# Altium integrated library TI_Logic_Specialty_Logic.IntLib: 2504 symbols (part 41 of 81)
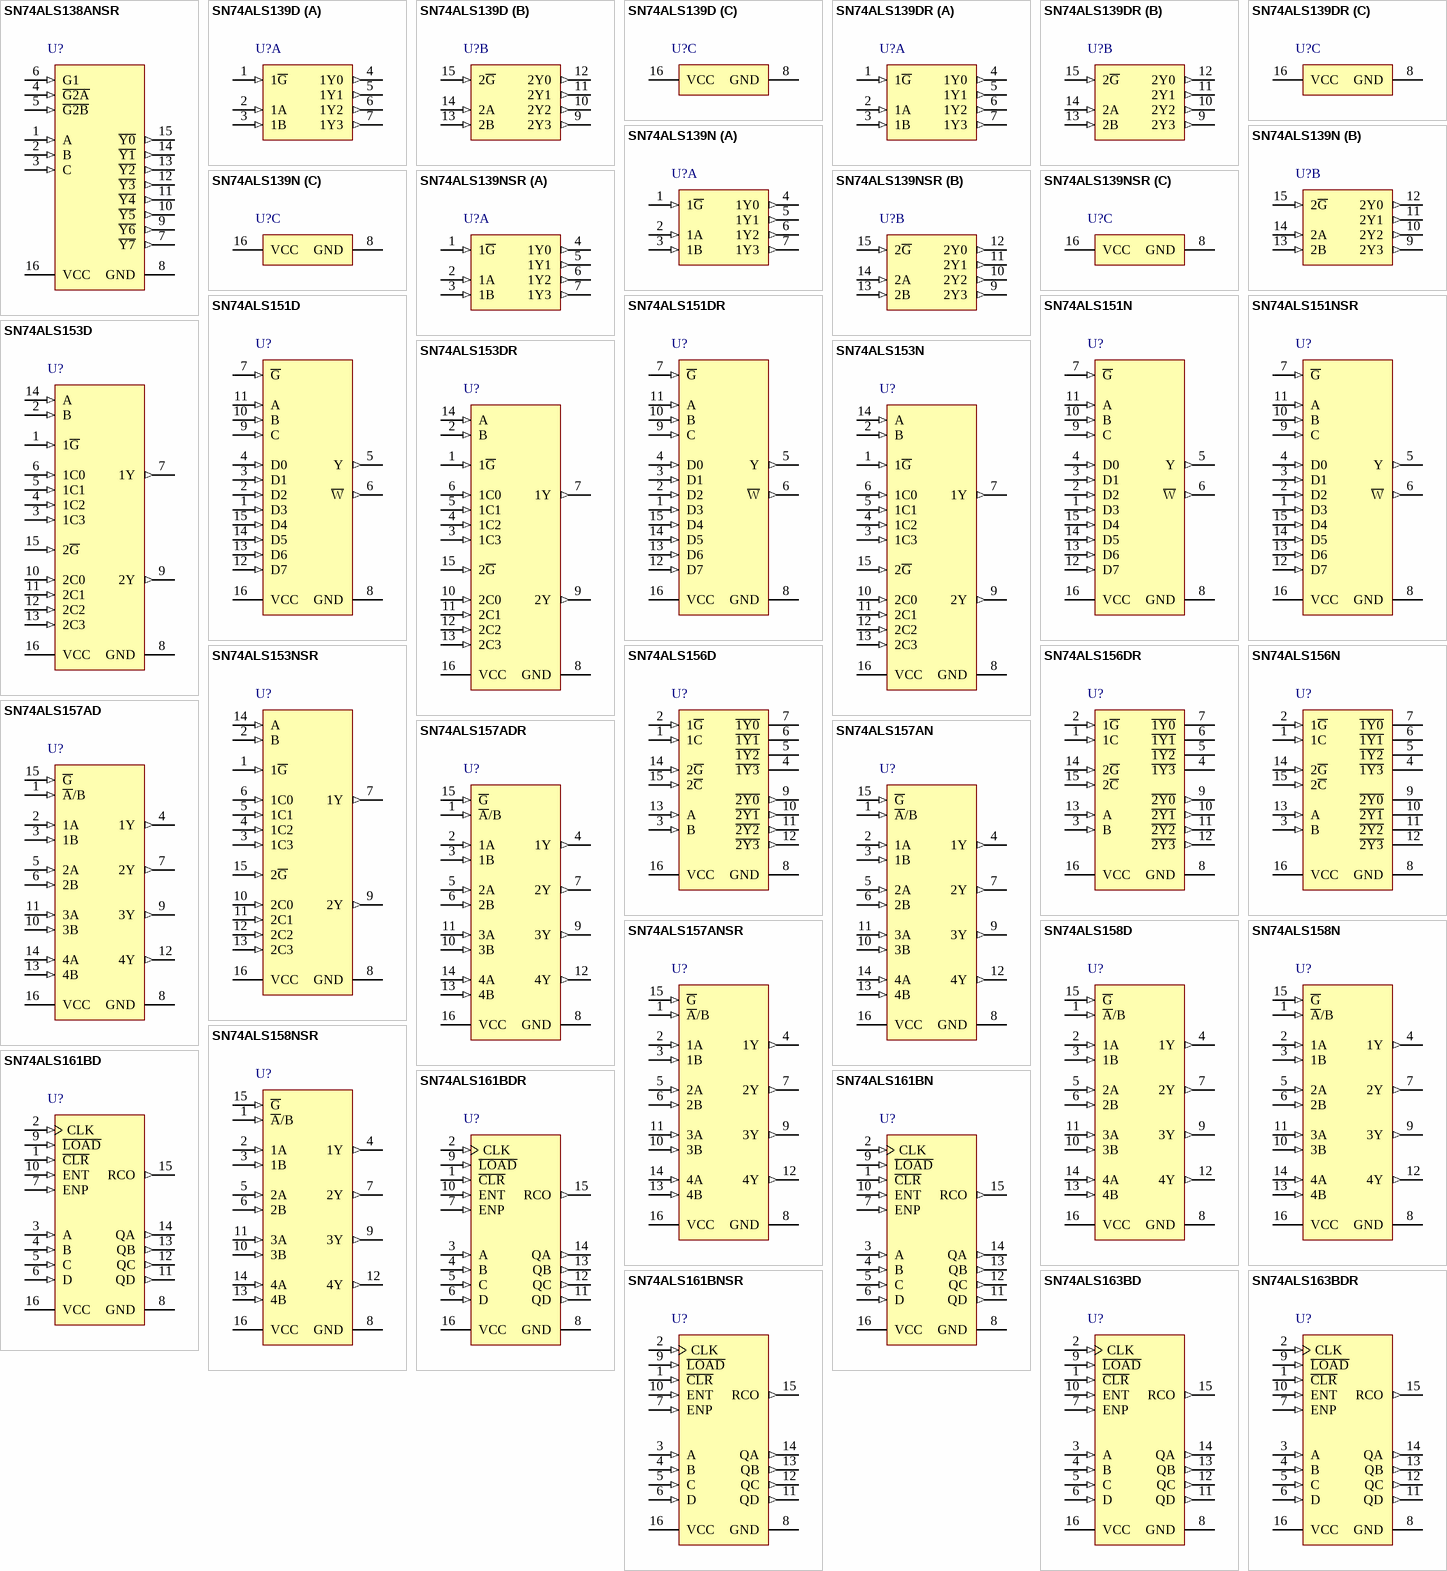
[diagram p144: symbols SN74ALS138ANSR to SN74ALS163BDR]

## SN74ALS138ANSR
designator U?
3-Line to 8-Line Decoders/Demultiplexers, NS0016A, LARGE T&R; Generic Part Number: SN74ALS138A; Manufacturer: Texas Instruments; PartNumber: SN74ALS138ANSR; VCC(Min)(V): 4.5; VCC(Max)(V): 5.5; Output Type: TTL; Function: Decoder/Demultiplexer; ICC @ Nom Voltage(Max)(mA): 10; Bits(#): 8; F @ Nom Voltage(Max)(Mhz): 75; Configuration: 3：8; Channels(#): 1; Rating: Catalog; Technology Family: ALS; Voltage(Nom)(V): 5; Schmitt Trigger: No; Output Drive (IOL/IOH)(Max)(mA): 8/-0.4; tpd @ Nom Voltage(Max)(ns): 22; DatasheetVersion: SDAS055E; PackageReference: NS0016A; Supplier 1: Mouser; Supplier Part Number 1: 595-SN74ALS138ANSR; Supplier 2: Digi-Key; Supplier Part Number 2: 296-29970-2-ND; Supplier 3: Digi-Key; Supplier Part Number 3: 296-29970-1-ND; Supplier 4: Digi-Key; Supplier Part Number 4: 296-29970-6-ND; Input Type: TTL; Operating Temperature Range(C): 0 to 70; Type: Standard; ComponentLink1Description: Manufacturer URL; ComponentLink1URL: http://www.ti.com/; ComponentLink2Description: Datasheet; ComponentLink2URL: http://www.ti.com/lit/ds/symlink/sn74als138a.pdf; ComponentLink3Description: Package Specification; ComponentLink3URL: http://www.ti.com/lit/ml/msop002a/msop002a.pdf
footprint NS0016A_N (SOIC,16-Leads,Body 10.5x5.6mm,Pitch 1.27mm,IPC Medium Density)
footprint NS0016A_M (SOIC,16-Leads,Body 10.5x5.6mm,Pitch 1.27mm,IPC Low Density)
footprint NS0016A_L (SOIC,16-Leads,Body 10.5x5.6mm,Pitch 1.27mm,IPC High Density)
pins: 1 A (in), 2 B (in), 3 C (in), 4 ~{G2A} (in), 5 ~{G2B} (in), 6 G1 (in), 7 ~{Y7} (out), 8 GND (power), 9 ~{Y6} (out), 10 ~{Y5} (out), 11 ~{Y4} (out), 12 ~{Y3} (out), 13 ~{Y2} (out), 14 ~{Y1} (out), 15 ~{Y0} (out), 16 VCC (power)

## SN74ALS139D
designator U?
Dual 2-Line to 4-Line Decoders/Demultiplexers, D0016A, TUBE; Generic Part Number: SN74ALS139; Manufacturer: Texas Instruments; PartNumber: SN74ALS139D; VCC(Min)(V): 4.5; VCC(Max)(V): 5.5; Output Type: TTL; Function: Decoder/Demultiplexer; ICC @ Nom Voltage(Max)(mA): 13; Bits(#): 4; F @ Nom Voltage(Max)(Mhz): 75; Configuration: 2：4; Channels(#): 2; Rating: Catalog; Technology Family: ALS; Voltage(Nom)(V): 5; Schmitt Trigger: No; Output Drive (IOL/IOH)(Max)(mA): 8/-0.4; tpd @ Nom Voltage(Max)(ns): 14; DatasheetVersion: SDAS204A; PackageReference: D0016A; Supplier 1: Mouser; Supplier Part Number 1: 595-SN74ALS139D; Supplier 2: Digi-Key; Supplier Part Number 2: 296-5019-5-ND; Input Type: TTL; Operating Temperature Range(C): 0 to 70; Type: Standard; Code_JEDEC: MS-012 variation AC; ComponentLink1Description: Manufacturer URL; ComponentLink1URL: http://www.ti.com/; ComponentLink2Description: Datasheet; ComponentLink2URL: http://www.ti.com/lit/ds/symlink/sn74als139.pdf; ComponentLink3Description: Package Specification; ComponentLink3URL: http://www.ti.com/lit/ml/mpds178g/mpds178g.pdf
footprint D0016A_N (SOIC, 16-Leads, Body 10x4mm, Pitch 1.27mm, IPC Medium Density)
footprint D0016A_M (SOIC, 16-Leads, Body 10x4mm, Pitch 1.27mm, IPC Low Density)
footprint D0016A_L (SOIC, 16-Leads, Body 10x4mm, Pitch 1.27mm, IPC High Density)
part A pins: 1 1~{G} (in), 2 1A (in), 3 1B (in), 4 1Y0 (out), 5 1Y1 (out), 6 1Y2 (out), 7 1Y3 (out)
part B pins: 9 2Y3 (out), 10 2Y2 (out), 11 2Y1 (out), 12 2Y0 (out), 13 2B (in), 14 2A (in), 15 2~{G} (in)
part C pins: 8 GND (power), 16 VCC (power)

## SN74ALS139DR
designator U?
Dual 2-Line to 4-Line Decoders/Demultiplexers, D0016A, LARGE T&R; Generic Part Number: SN74ALS139; Manufacturer: Texas Instruments; PartNumber: SN74ALS139DR; VCC(Min)(V): 4.5; VCC(Max)(V): 5.5; Output Type: TTL; Function: Decoder/Demultiplexer; ICC @ Nom Voltage(Max)(mA): 13; Bits(#): 4; F @ Nom Voltage(Max)(Mhz): 75; Configuration: 2：4; Channels(#): 2; Rating: Catalog; Technology Family: ALS; Voltage(Nom)(V): 5; Schmitt Trigger: No; Output Drive (IOL/IOH)(Max)(mA): 8/-0.4; tpd @ Nom Voltage(Max)(ns): 14; DatasheetVersion: SDAS204A; PackageReference: D0016A; Supplier 1: Mouser; Supplier Part Number 1: 595-SN74ALS139DR; Supplier 2: Digi-Key; Supplier Part Number 2: 296-14715-2-ND; Supplier 3: Digi-Key; Supplier Part Number 3: 296-14715-1-ND; Supplier 4: Digi-Key; Supplier Part Number 4: 296-14715-6-ND; Input Type: TTL; Operating Temperature Range(C): 0 to 70; Type: Standard; Code_JEDEC: MS-012 variation AC; ComponentLink1Description: Manufacturer URL; ComponentLink1URL: http://www.ti.com/; ComponentLink2Description: Datasheet; ComponentLink2URL: http://www.ti.com/lit/ds/symlink/sn74als139.pdf; ComponentLink3Description: Package Specification; ComponentLink3URL: http://www.ti.com/lit/ml/mpds178g/mpds178g.pdf
footprint D0016A_N (SOIC, 16-Leads, Body 10x4mm, Pitch 1.27mm, IPC Medium Density)
footprint D0016A_M (SOIC, 16-Leads, Body 10x4mm, Pitch 1.27mm, IPC Low Density)
footprint D0016A_L (SOIC, 16-Leads, Body 10x4mm, Pitch 1.27mm, IPC High Density)
part A pins: 1 1~{G} (in), 2 1A (in), 3 1B (in), 4 1Y0 (out), 5 1Y1 (out), 6 1Y2 (out), 7 1Y3 (out)
part B pins: 9 2Y3 (out), 10 2Y2 (out), 11 2Y1 (out), 12 2Y0 (out), 13 2B (in), 14 2A (in), 15 2~{G} (in)
part C pins: 8 GND (power), 16 VCC (power)

## SN74ALS139N
designator U?
Dual 2-Line to 4-Line Decoders/Demultiplexers, N0016A, TUBE; Generic Part Number: SN74ALS139; Manufacturer: Texas Instruments; PartNumber: SN74ALS139N; VCC(Min)(V): 4.5; VCC(Max)(V): 5.5; Output Type: TTL; Function: Decoder/Demultiplexer; ICC @ Nom Voltage(Max)(mA): 13; Bits(#): 4; F @ Nom Voltage(Max)(Mhz): 75; Configuration: 2：4; Channels(#): 2; Rating: Catalog; Technology Family: ALS; Voltage(Nom)(V): 5; Schmitt Trigger: No; Output Drive (IOL/IOH)(Max)(mA): 8/-0.4; tpd @ Nom Voltage(Max)(ns): 14; DatasheetVersion: SDAS204A; PackageReference: N0016A; Supplier 1: Mouser; Supplier Part Number 1: 595-SN74ALS139N; Supplier 2: Digi-Key; Supplier Part Number 2: 296-1486-5-ND; Input Type: TTL; Operating Temperature Range(C): 0 to 70; Type: Standard; Code_JEDEC: MS-001; ComponentLink1Description: Manufacturer URL; ComponentLink1URL: http://www.ti.com/; ComponentLink2Description: Datasheet; ComponentLink2URL: http://www.ti.com/lit/ds/symlink/sn74als139.pdf; ComponentLink3Description: Package Specification; ComponentLink3URL: http://www.ti.com/lit/ml/mpdi002c/mpdi002c.pdf
footprint N0016A (DIP, 16-Leads, Body 19.7x6.6mm, Pitch 2.54mm)
part A pins: 1 1~{G} (in), 2 1A (in), 3 1B (in), 4 1Y0 (out), 5 1Y1 (out), 6 1Y2 (out), 7 1Y3 (out)
part B pins: 9 2Y3 (out), 10 2Y2 (out), 11 2Y1 (out), 12 2Y0 (out), 13 2B (in), 14 2A (in), 15 2~{G} (in)
part C pins: 8 GND (power), 16 VCC (power)

## SN74ALS139NSR
designator U?
Dual 2-Line to 4-Line Decoders/Demultiplexers, NS0016A, LARGE T&R; Generic Part Number: SN74ALS139; Manufacturer: Texas Instruments; PartNumber: SN74ALS139NSR; VCC(Min)(V): 4.5; VCC(Max)(V): 5.5; Output Type: TTL; Function: Decoder/Demultiplexer; ICC @ Nom Voltage(Max)(mA): 13; Bits(#): 4; F @ Nom Voltage(Max)(Mhz): 75; Configuration: 2：4; Channels(#): 2; Rating: Catalog; Technology Family: ALS; Voltage(Nom)(V): 5; Schmitt Trigger: No; Output Drive (IOL/IOH)(Max)(mA): 8/-0.4; tpd @ Nom Voltage(Max)(ns): 14; DatasheetVersion: SDAS204A; PackageReference: NS0016A; Supplier 1: Mouser; Supplier Part Number 1: 595-SN74ALS139NSR; Supplier 2: Digi-Key; Supplier Part Number 2: SN74ALS139NSR-ND; Input Type: TTL; Operating Temperature Range(C): 0 to 70; Type: Standard; ComponentLink1Description: Manufacturer URL; ComponentLink1URL: http://www.ti.com/; ComponentLink2Description: Datasheet; ComponentLink2URL: http://www.ti.com/lit/ds/symlink/sn74als139.pdf; ComponentLink3Description: Package Specification; ComponentLink3URL: http://www.ti.com/lit/ml/msop002a/msop002a.pdf
footprint NS0016A_N (SOIC,16-Leads,Body 10.5x5.6mm,Pitch 1.27mm,IPC Medium Density)
footprint NS0016A_M (SOIC,16-Leads,Body 10.5x5.6mm,Pitch 1.27mm,IPC Low Density)
footprint NS0016A_L (SOIC,16-Leads,Body 10.5x5.6mm,Pitch 1.27mm,IPC High Density)
part A pins: 1 1~{G} (in), 2 1A (in), 3 1B (in), 4 1Y0 (out), 5 1Y1 (out), 6 1Y2 (out), 7 1Y3 (out)
part B pins: 9 2Y3 (out), 10 2Y2 (out), 11 2Y1 (out), 12 2Y0 (out), 13 2B (in), 14 2A (in), 15 2~{G} (in)
part C pins: 8 GND (power), 16 VCC (power)

## SN74ALS151D
designator U?
1-of-8 Data Selectors/Multiplexers, D0016A, TUBE; Generic Part Number: SN74ALS151; Manufacturer: Texas Instruments; PartNumber: SN74ALS151D; VCC(Min)(V): 4.5; VCC(Max)(V): 5.5; Output Type: TTL; Function: Encoder/Multiplexer; ICC @ Nom Voltage(Max)(mA): 12; Bits(#): 8; F @ Nom Voltage(Max)(Mhz): 75; Configuration: 8：1; Channels(#): 1; Rating: Catalog; Technology Family: ALS; Voltage(Nom)(V): 5; Schmitt Trigger: No; Output Drive (IOL/IOH)(Max)(mA): 24/-2.6; tpd @ Nom Voltage(Max)(ns): 24; DatasheetVersion: SDAS205A; PackageReference: D0016A; Supplier 1: Mouser; Supplier Part Number 1: 595-SN74ALS151D; Supplier 2: Digi-Key; Supplier Part Number 2: 296-33708-5-ND; Input Type: TTL; Operating Temperature Range(C): 0 to 70; Type: Standard; Code_JEDEC: MS-012 variation AC; ComponentLink1Description: Manufacturer URL; ComponentLink1URL: http://www.ti.com/; ComponentLink2Description: Datasheet; ComponentLink2URL: http://www.ti.com/lit/ds/symlink/sn74als151.pdf; ComponentLink3Description: Package Specification; ComponentLink3URL: http://www.ti.com/lit/ml/mpds178g/mpds178g.pdf
footprint D0016A_N (SOIC, 16-Leads, Body 10x4mm, Pitch 1.27mm, IPC Medium Density)
footprint D0016A_M (SOIC, 16-Leads, Body 10x4mm, Pitch 1.27mm, IPC Low Density)
footprint D0016A_L (SOIC, 16-Leads, Body 10x4mm, Pitch 1.27mm, IPC High Density)
pins: 1 D3 (in), 2 D2 (in), 3 D1 (in), 4 D0 (in), 5 Y (out), 6 ~{W} (out), 7 ~{G} (in), 8 GND (power), 9 C (in), 10 B (in), 11 A (in), 12 D7 (in), 13 D6 (in), 14 D5 (in), 15 D4 (in), 16 VCC (power)

## SN74ALS151DR
designator U?
1-of-8 Data Selectors/Multiplexers, D0016A, LARGE T&R; Generic Part Number: SN74ALS151; Manufacturer: Texas Instruments; PartNumber: SN74ALS151DR; VCC(Min)(V): 4.5; VCC(Max)(V): 5.5; Output Type: TTL; Function: Encoder/Multiplexer; ICC @ Nom Voltage(Max)(mA): 12; Bits(#): 8; F @ Nom Voltage(Max)(Mhz): 75; Configuration: 8：1; Channels(#): 1; Rating: Catalog; Technology Family: ALS; Voltage(Nom)(V): 5; Schmitt Trigger: No; Output Drive (IOL/IOH)(Max)(mA): 24/-2.6; tpd @ Nom Voltage(Max)(ns): 24; DatasheetVersion: SDAS205A; PackageReference: D0016A; Supplier 1: Mouser; Supplier Part Number 1: 595-SN74ALS151DR; Supplier 2: Digi-Key; Supplier Part Number 2: 296-14717-2-ND; Supplier 3: Digi-Key; Supplier Part Number 3: 296-14717-1-ND; Supplier 4: Digi-Key; Supplier Part Number 4: 296-14717-6-ND; Input Type: TTL; Operating Temperature Range(C): 0 to 70; Type: Standard; Code_JEDEC: MS-012 variation AC; ComponentLink1Description: Manufacturer URL; ComponentLink1URL: http://www.ti.com/; ComponentLink2Description: Datasheet; ComponentLink2URL: http://www.ti.com/lit/ds/symlink/sn74als151.pdf; ComponentLink3Description: Package Specification; ComponentLink3URL: http://www.ti.com/lit/ml/mpds178g/mpds178g.pdf
footprint D0016A_N (SOIC, 16-Leads, Body 10x4mm, Pitch 1.27mm, IPC Medium Density)
footprint D0016A_M (SOIC, 16-Leads, Body 10x4mm, Pitch 1.27mm, IPC Low Density)
footprint D0016A_L (SOIC, 16-Leads, Body 10x4mm, Pitch 1.27mm, IPC High Density)
pins: 1 D3 (in), 2 D2 (in), 3 D1 (in), 4 D0 (in), 5 Y (out), 6 ~{W} (out), 7 ~{G} (in), 8 GND (power), 9 C (in), 10 B (in), 11 A (in), 12 D7 (in), 13 D6 (in), 14 D5 (in), 15 D4 (in), 16 VCC (power)

## SN74ALS151N
designator U?
1-of-8 Data Selectors/Multiplexers, N0016A, TUBE; Generic Part Number: SN74ALS151; Manufacturer: Texas Instruments; PartNumber: SN74ALS151N; VCC(Min)(V): 4.5; VCC(Max)(V): 5.5; Output Type: TTL; Function: Encoder/Multiplexer; ICC @ Nom Voltage(Max)(mA): 12; Bits(#): 8; F @ Nom Voltage(Max)(Mhz): 75; Configuration: 8：1; Channels(#): 1; Rating: Catalog; Technology Family: ALS; Voltage(Nom)(V): 5; Schmitt Trigger: No; Output Drive (IOL/IOH)(Max)(mA): 24/-2.6; tpd @ Nom Voltage(Max)(ns): 24; DatasheetVersion: SDAS205A; PackageReference: N0016A; Supplier 1: Mouser; Supplier Part Number 1: 595-SN74ALS151N; Supplier 2: Digi-Key; Supplier Part Number 2: 296-5020-5-ND; Input Type: TTL; Operating Temperature Range(C): 0 to 70; Type: Standard; Code_JEDEC: MS-001; ComponentLink1Description: Manufacturer URL; ComponentLink1URL: http://www.ti.com/; ComponentLink2Description: Datasheet; ComponentLink2URL: http://www.ti.com/lit/ds/symlink/sn74als151.pdf; ComponentLink3Description: Package Specification; ComponentLink3URL: http://www.ti.com/lit/ml/mpdi002c/mpdi002c.pdf
footprint N0016A (DIP, 16-Leads, Body 19.7x6.6mm, Pitch 2.54mm)
pins: 1 D3 (in), 2 D2 (in), 3 D1 (in), 4 D0 (in), 5 Y (out), 6 ~{W} (out), 7 ~{G} (in), 8 GND (power), 9 C (in), 10 B (in), 11 A (in), 12 D7 (in), 13 D6 (in), 14 D5 (in), 15 D4 (in), 16 VCC (power)

## SN74ALS151NSR
designator U?
1-of-8 Data Selectors/Multiplexers, NS0016A, LARGE T&R; Generic Part Number: SN74ALS151; Manufacturer: Texas Instruments; PartNumber: SN74ALS151NSR; VCC(Min)(V): 4.5; VCC(Max)(V): 5.5; Output Type: TTL; Function: Encoder/Multiplexer; ICC @ Nom Voltage(Max)(mA): 12; Bits(#): 8; F @ Nom Voltage(Max)(Mhz): 75; Configuration: 8：1; Channels(#): 1; Rating: Catalog; Technology Family: ALS; Voltage(Nom)(V): 5; Schmitt Trigger: No; Output Drive (IOL/IOH)(Max)(mA): 24/-2.6; tpd @ Nom Voltage(Max)(ns): 24; DatasheetVersion: SDAS205A; PackageReference: NS0016A; Supplier 1: Mouser; Supplier Part Number 1: 595-SN74ALS151NSR; Supplier 2: Digi-Key; Supplier Part Number 2: SN74ALS151NSR-ND; Input Type: TTL; Operating Temperature Range(C): 0 to 70; Type: Standard; ComponentLink1Description: Manufacturer URL; ComponentLink1URL: http://www.ti.com/; ComponentLink2Description: Datasheet; ComponentLink2URL: http://www.ti.com/lit/ds/symlink/sn74als151.pdf; ComponentLink3Description: Package Specification; ComponentLink3URL: http://www.ti.com/lit/ml/msop002a/msop002a.pdf
footprint NS0016A_N (SOIC,16-Leads,Body 10.5x5.6mm,Pitch 1.27mm,IPC Medium Density)
footprint NS0016A_M (SOIC,16-Leads,Body 10.5x5.6mm,Pitch 1.27mm,IPC Low Density)
footprint NS0016A_L (SOIC,16-Leads,Body 10.5x5.6mm,Pitch 1.27mm,IPC High Density)
pins: 1 D3 (in), 2 D2 (in), 3 D1 (in), 4 D0 (in), 5 Y (out), 6 ~{W} (out), 7 ~{G} (in), 8 GND (power), 9 C (in), 10 B (in), 11 A (in), 12 D7 (in), 13 D6 (in), 14 D5 (in), 15 D4 (in), 16 VCC (power)

## SN74ALS153D
designator U?
Dual 1-of-4 Data Selectors/Multiplexers, D0016A, TUBE; Generic Part Number: SN74ALS153; Manufacturer: Texas Instruments; PartNumber: SN74ALS153D; VCC(Min)(V): 4.5; VCC(Max)(V): 5.5; Output Type: TTL; Function: Encoder/Multiplexer; ICC @ Nom Voltage(Max)(mA): 14; Bits(#): 4; F @ Nom Voltage(Max)(Mhz): 75; Configuration: 4：1; Channels(#): 2; Rating: Catalog; Technology Family: ALS; Voltage(Nom)(V): 5; Schmitt Trigger: No; Output Drive (IOL/IOH)(Max)(mA): 24/-2.6; tpd @ Nom Voltage(Max)(ns): 21; DatasheetVersion: SDAS206A; PackageReference: D0016A; Supplier 1: Mouser; Supplier Part Number 1: 595-SN74ALS153D; Supplier 2: Digi-Key; Supplier Part Number 2: 296-33709-5-ND; Input Type: TTL; Operating Temperature Range(C): 0 to 70; Type: Standard; Code_JEDEC: MS-012 variation AC; ComponentLink1Description: Manufacturer URL; ComponentLink1URL: http://www.ti.com/; ComponentLink2Description: Datasheet; ComponentLink2URL: http://www.ti.com/lit/ds/symlink/sn74als153.pdf; ComponentLink3Description: Package Specification; ComponentLink3URL: http://www.ti.com/lit/ml/mpds178g/mpds178g.pdf
footprint D0016A_N (SOIC, 16-Leads, Body 10x4mm, Pitch 1.27mm, IPC Medium Density)
footprint D0016A_M (SOIC, 16-Leads, Body 10x4mm, Pitch 1.27mm, IPC Low Density)
footprint D0016A_L (SOIC, 16-Leads, Body 10x4mm, Pitch 1.27mm, IPC High Density)
pins: 1 1~{G} (in), 2 B (in), 3 1C3 (in), 4 1C2 (in), 5 1C1 (in), 6 1C0 (in), 7 1Y (out), 8 GND (power), 9 2Y (out), 10 2C0 (in), 11 2C1 (in), 12 2C2 (in), 13 2C3 (in), 14 A (in), 15 2~{G} (in), 16 VCC (power)

## SN74ALS153DR
designator U?
Dual 1-of-4 Data Selectors/Multiplexers, D0016A, LARGE T&R; Generic Part Number: SN74ALS153; Manufacturer: Texas Instruments; PartNumber: SN74ALS153DR; VCC(Min)(V): 4.5; VCC(Max)(V): 5.5; Output Type: TTL; Function: Encoder/Multiplexer; ICC @ Nom Voltage(Max)(mA): 14; Bits(#): 4; F @ Nom Voltage(Max)(Mhz): 75; Configuration: 4：1; Channels(#): 2; Rating: Catalog; Technology Family: ALS; Voltage(Nom)(V): 5; Schmitt Trigger: No; Output Drive (IOL/IOH)(Max)(mA): 24/-2.6; tpd @ Nom Voltage(Max)(ns): 21; DatasheetVersion: SDAS206A; PackageReference: D0016A; Supplier 1: Mouser; Supplier Part Number 1: 595-SN74ALS153DR; Supplier 2: Digi-Key; Supplier Part Number 2: 296-5021-2-ND; Supplier 3: Digi-Key; Supplier Part Number 3: 296-5021-1-ND; Supplier 4: Digi-Key; Supplier Part Number 4: 296-5021-6-ND; Input Type: TTL; Operating Temperature Range(C): 0 to 70; Type: Standard; Code_JEDEC: MS-012 variation AC; ComponentLink1Description: Manufacturer URL; ComponentLink1URL: http://www.ti.com/; ComponentLink2Description: Datasheet; ComponentLink2URL: http://www.ti.com/lit/ds/symlink/sn74als153.pdf; ComponentLink3Description: Package Specification; ComponentLink3URL: http://www.ti.com/lit/ml/mpds178g/mpds178g.pdf
footprint D0016A_N (SOIC, 16-Leads, Body 10x4mm, Pitch 1.27mm, IPC Medium Density)
footprint D0016A_M (SOIC, 16-Leads, Body 10x4mm, Pitch 1.27mm, IPC Low Density)
footprint D0016A_L (SOIC, 16-Leads, Body 10x4mm, Pitch 1.27mm, IPC High Density)
pins: 1 1~{G} (in), 2 B (in), 3 1C3 (in), 4 1C2 (in), 5 1C1 (in), 6 1C0 (in), 7 1Y (out), 8 GND (power), 9 2Y (out), 10 2C0 (in), 11 2C1 (in), 12 2C2 (in), 13 2C3 (in), 14 A (in), 15 2~{G} (in), 16 VCC (power)

## SN74ALS153N
designator U?
Dual 1-of-4 Data Selectors/Multiplexers, N0016A, TUBE; Generic Part Number: SN74ALS153; Manufacturer: Texas Instruments; PartNumber: SN74ALS153N; VCC(Min)(V): 4.5; VCC(Max)(V): 5.5; Output Type: TTL; Function: Encoder/Multiplexer; ICC @ Nom Voltage(Max)(mA): 14; Bits(#): 4; F @ Nom Voltage(Max)(Mhz): 75; Configuration: 4：1; Channels(#): 2; Rating: Catalog; Technology Family: ALS; Voltage(Nom)(V): 5; Schmitt Trigger: No; Output Drive (IOL/IOH)(Max)(mA): 24/-2.6; tpd @ Nom Voltage(Max)(ns): 21; DatasheetVersion: SDAS206A; PackageReference: N0016A; Supplier 1: Mouser; Supplier Part Number 1: 595-SN74ALS153N; Supplier 2: Digi-Key; Supplier Part Number 2: 296-5022-5-ND; Input Type: TTL; Operating Temperature Range(C): 0 to 70; Type: Standard; Code_JEDEC: MS-001; ComponentLink1Description: Manufacturer URL; ComponentLink1URL: http://www.ti.com/; ComponentLink2Description: Datasheet; ComponentLink2URL: http://www.ti.com/lit/ds/symlink/sn74als153.pdf; ComponentLink3Description: Package Specification; ComponentLink3URL: http://www.ti.com/lit/ml/mpdi002c/mpdi002c.pdf
footprint N0016A (DIP, 16-Leads, Body 19.7x6.6mm, Pitch 2.54mm)
pins: 1 1~{G} (in), 2 B (in), 3 1C3 (in), 4 1C2 (in), 5 1C1 (in), 6 1C0 (in), 7 1Y (out), 8 GND (power), 9 2Y (out), 10 2C0 (in), 11 2C1 (in), 12 2C2 (in), 13 2C3 (in), 14 A (in), 15 2~{G} (in), 16 VCC (power)

## SN74ALS153NSR
designator U?
Dual 1-of-4 Data Selectors/Multiplexers, NS0016A, LARGE T&R; Generic Part Number: SN74ALS153; Manufacturer: Texas Instruments; PartNumber: SN74ALS153NSR; VCC(Min)(V): 4.5; VCC(Max)(V): 5.5; Output Type: TTL; Function: Encoder/Multiplexer; ICC @ Nom Voltage(Max)(mA): 14; Bits(#): 4; F @ Nom Voltage(Max)(Mhz): 75; Configuration: 4：1; Channels(#): 2; Rating: Catalog; Technology Family: ALS; Voltage(Nom)(V): 5; Schmitt Trigger: No; Output Drive (IOL/IOH)(Max)(mA): 24/-2.6; tpd @ Nom Voltage(Max)(ns): 21; DatasheetVersion: SDAS206A; PackageReference: NS0016A; Supplier 1: Mouser; Supplier Part Number 1: 595-SN74ALS153NSR; Supplier 2: Digi-Key; Supplier Part Number 2: 296-29286-2-ND; Supplier 3: Digi-Key; Supplier Part Number 3: 296-29286-1-ND; Supplier 4: Digi-Key; Supplier Part Number 4: 296-29286-6-ND; Input Type: TTL; Operating Temperature Range(C): 0 to 70; Type: Standard; ComponentLink1Description: Manufacturer URL; ComponentLink1URL: http://www.ti.com/; ComponentLink2Description: Datasheet; ComponentLink2URL: http://www.ti.com/lit/ds/symlink/sn74als153.pdf; ComponentLink3Description: Package Specification; ComponentLink3URL: http://www.ti.com/lit/ml/msop002a/msop002a.pdf
footprint NS0016A_N (SOIC,16-Leads,Body 10.5x5.6mm,Pitch 1.27mm,IPC Medium Density)
footprint NS0016A_M (SOIC,16-Leads,Body 10.5x5.6mm,Pitch 1.27mm,IPC Low Density)
footprint NS0016A_L (SOIC,16-Leads,Body 10.5x5.6mm,Pitch 1.27mm,IPC High Density)
pins: 1 1~{G} (in), 2 B (in), 3 1C3 (in), 4 1C2 (in), 5 1C1 (in), 6 1C0 (in), 7 1Y (out), 8 GND (power), 9 2Y (out), 10 2C0 (in), 11 2C1 (in), 12 2C2 (in), 13 2C3 (in), 14 A (in), 15 2~{G} (in), 16 VCC (power)

## SN74ALS156D
designator U?
Decoders/Demultiplexers With Open-Collector Outputs, D0016A, TUBE; Generic Part Number: SN74ALS156; Manufacturer: Texas Instruments; PartNumber: SN74ALS156D; VCC(Min)(V): 4.5; VCC(Max)(V): 5.5; Output Type: TTL; Function: Decoder/Demultiplexer; ICC @ Nom Voltage(Max)(mA): 9; Bits(#): 8; F @ Nom Voltage(Max)(Mhz): 75; Channels(#): 1,2; Rating: Catalog; Technology Family: ALS; Voltage(Nom)(V): 5; Schmitt Trigger: No; Output Drive (IOL/IOH)(Max)(mA): 8/-0.1; tpd @ Nom Voltage(Max)(ns): 55; DatasheetVersion: SDAS099C; PackageReference: D0016A; Supplier 1: Mouser; Supplier Part Number 1: 595-SN74ALS156D; Supplier 2: Digi-Key; Supplier Part Number 2: 296-33710-5-ND; Input Type: TTL; Operating Temperature Range(C): 0 to 70; Type: Open-Collector; Code_JEDEC: MS-012 variation AC; ComponentLink1Description: Manufacturer URL; ComponentLink1URL: http://www.ti.com/; ComponentLink2Description: Datasheet; ComponentLink2URL: http://www.ti.com/lit/ds/symlink/sn74als156.pdf; ComponentLink3Description: Package Specification; ComponentLink3URL: http://www.ti.com/lit/ml/mpds178g/mpds178g.pdf
footprint D0016A_N (SOIC, 16-Leads, Body 10x4mm, Pitch 1.27mm, IPC Medium Density)
footprint D0016A_M (SOIC, 16-Leads, Body 10x4mm, Pitch 1.27mm, IPC Low Density)
footprint D0016A_L (SOIC, 16-Leads, Body 10x4mm, Pitch 1.27mm, IPC High Density)
pins: 1 1C (in), 2 1~{G} (in), 3 B (in), 4 ~{1Y3} (oc), 5 ~{1Y2} (oc), 6 ~{1Y1} (oc), 7 ~{1Y0} (oc), 8 GND (power), 9 ~{2Y0} (out), 10 ~{2Y1} (out), 11 ~{2Y2} (out), 12 ~{2Y3} (out), 13 A (in), 14 2~{G} (in), 15 2~{C} (in), 16 VCC (power)

## SN74ALS156DR
designator U?
Decoders/Demultiplexers With Open-Collector Outputs, D0016A, LARGE T&R; Generic Part Number: SN74ALS156; Manufacturer: Texas Instruments; PartNumber: SN74ALS156DR; VCC(Min)(V): 4.5; VCC(Max)(V): 5.5; Output Type: TTL; Function: Decoder/Demultiplexer; ICC @ Nom Voltage(Max)(mA): 9; Bits(#): 8; F @ Nom Voltage(Max)(Mhz): 75; Channels(#): 1,2; Rating: Catalog; Technology Family: ALS; Voltage(Nom)(V): 5; Schmitt Trigger: No; Output Drive (IOL/IOH)(Max)(mA): 8/-0.1; tpd @ Nom Voltage(Max)(ns): 55; DatasheetVersion: SDAS099C; PackageReference: D0016A; Supplier 1: Mouser; Supplier Part Number 1: 595-SN74ALS156DR; Supplier 2: Digi-Key; Supplier Part Number 2: 296-42050-2-ND; Supplier 3: Digi-Key; Supplier Part Number 3: 296-42050-1-ND; Supplier 4: Digi-Key; Supplier Part Number 4: 296-42050-6-ND; Input Type: TTL; Operating Temperature Range(C): 0 to 70; Type: Open-Collector; Code_JEDEC: MS-012 variation AC; ComponentLink1Description: Manufacturer URL; ComponentLink1URL: http://www.ti.com/; ComponentLink2Description: Datasheet; ComponentLink2URL: http://www.ti.com/lit/ds/symlink/sn74als156.pdf; ComponentLink3Description: Package Specification; ComponentLink3URL: http://www.ti.com/lit/ml/mpds178g/mpds178g.pdf
footprint D0016A_N (SOIC, 16-Leads, Body 10x4mm, Pitch 1.27mm, IPC Medium Density)
footprint D0016A_M (SOIC, 16-Leads, Body 10x4mm, Pitch 1.27mm, IPC Low Density)
footprint D0016A_L (SOIC, 16-Leads, Body 10x4mm, Pitch 1.27mm, IPC High Density)
pins: 1 1C (in), 2 1~{G} (in), 3 B (in), 4 ~{1Y3} (oc), 5 ~{1Y2} (oc), 6 ~{1Y1} (oc), 7 ~{1Y0} (oc), 8 GND (power), 9 ~{2Y0} (out), 10 ~{2Y1} (out), 11 ~{2Y2} (out), 12 ~{2Y3} (out), 13 A (in), 14 2~{G} (in), 15 2~{C} (in), 16 VCC (power)

## SN74ALS156N
designator U?
Decoders/Demultiplexers With Open-Collector Outputs, N0016A, TUBE; Generic Part Number: SN74ALS156; Manufacturer: Texas Instruments; PartNumber: SN74ALS156N; VCC(Min)(V): 4.5; VCC(Max)(V): 5.5; Output Type: TTL; Function: Decoder/Demultiplexer; ICC @ Nom Voltage(Max)(mA): 9; Bits(#): 8; F @ Nom Voltage(Max)(Mhz): 75; Channels(#): 1,2; Rating: Catalog; Technology Family: ALS; Voltage(Nom)(V): 5; Schmitt Trigger: No; Output Drive (IOL/IOH)(Max)(mA): 8/-0.1; tpd @ Nom Voltage(Max)(ns): 55; DatasheetVersion: SDAS099C; PackageReference: N0016A; Supplier 1: Mouser; Supplier Part Number 1: 595-SN74ALS156N; Supplier 2: Digi-Key; Supplier Part Number 2: SN74ALS156N-ND; Input Type: TTL; Operating Temperature Range(C): 0 to 70; Type: Open-Collector; Code_JEDEC: MS-001; ComponentLink1Description: Manufacturer URL; ComponentLink1URL: http://www.ti.com/; ComponentLink2Description: Datasheet; ComponentLink2URL: http://www.ti.com/lit/ds/symlink/sn74als156.pdf; ComponentLink3Description: Package Specification; ComponentLink3URL: http://www.ti.com/lit/ml/mpdi002c/mpdi002c.pdf
footprint N0016A (DIP, 16-Leads, Body 19.7x6.6mm, Pitch 2.54mm)
pins: 1 1C (in), 2 1~{G} (in), 3 B (in), 4 ~{1Y3} (oc), 5 ~{1Y2} (oc), 6 ~{1Y1} (oc), 7 ~{1Y0} (oc), 8 GND (power), 9 ~{2Y0} (oc), 10 ~{2Y1} (oc), 11 ~{2Y2} (oc), 12 ~{2Y3} (oc), 13 A (in), 14 2~{G} (in), 15 2~{C} (in), 16 VCC (power)

## SN74ALS157AD
designator U?
Quadruple 1-of-2 Data Selectors/Multiplexers, D0016A, TUBE; Generic Part Number: SN74ALS157A; Manufacturer: Texas Instruments; PartNumber: SN74ALS157AD; VCC(Min)(V): 4.5; VCC(Max)(V): 5.5; Output Type: TTL; Function: Encoder/Multiplexer; ICC @ Nom Voltage(Max)(mA): 11; Bits(#): 2; F @ Nom Voltage(Max)(Mhz): 75; Configuration: 2：1; Channels(#): 4; Rating: Catalog; Technology Family: ALS; Voltage(Nom)(V): 5; Schmitt Trigger: No; Output Drive (IOL/IOH)(Max)(mA): 8/-0.4; tpd @ Nom Voltage(Max)(ns): 14; DatasheetVersion: SDAS081C; PackageReference: D0016A; Supplier 1: Mouser; Supplier Part Number 1: 595-SN74ALS157AD; Supplier 2: Digi-Key; Supplier Part Number 2: 296-33711-5-ND; Input Type: TTL; Operating Temperature Range(C): 0 to 70; Type: Standard; Code_JEDEC: MS-012 variation AC; ComponentLink1Description: Manufacturer URL; ComponentLink1URL: http://www.ti.com/; ComponentLink2Description: Datasheet; ComponentLink2URL: http://www.ti.com/lit/ds/symlink/sn74als157a.pdf; ComponentLink3Description: Package Specification; ComponentLink3URL: http://www.ti.com/lit/ml/mpds178g/mpds178g.pdf
footprint D0016A_N (SOIC, 16-Leads, Body 10x4mm, Pitch 1.27mm, IPC Medium Density)
footprint D0016A_M (SOIC, 16-Leads, Body 10x4mm, Pitch 1.27mm, IPC Low Density)
footprint D0016A_L (SOIC, 16-Leads, Body 10x4mm, Pitch 1.27mm, IPC High Density)
pins: 1 ~{A}/B (in), 2 1A (in), 3 1B (in), 4 1Y (out), 5 2A (in), 6 2B (in), 7 2Y (out), 8 GND (power), 9 3Y (out), 10 3B (in), 11 3A (in), 12 4Y (out), 13 4B (in), 14 4A (in), 15 ~{G} (in), 16 VCC (power)

## SN74ALS157ADR
designator U?
Quadruple 1-of-2 Data Selectors/Multiplexers, D0016A, LARGE T&R; Generic Part Number: SN74ALS157A; Manufacturer: Texas Instruments; PartNumber: SN74ALS157ADR; VCC(Min)(V): 4.5; VCC(Max)(V): 5.5; Output Type: TTL; Function: Encoder/Multiplexer; ICC @ Nom Voltage(Max)(mA): 11; Bits(#): 2; F @ Nom Voltage(Max)(Mhz): 75; Configuration: 2：1; Channels(#): 4; Rating: Catalog; Technology Family: ALS; Voltage(Nom)(V): 5; Schmitt Trigger: No; Output Drive (IOL/IOH)(Max)(mA): 8/-0.4; tpd @ Nom Voltage(Max)(ns): 14; DatasheetVersion: SDAS081C; PackageReference: D0016A; Supplier 1: Mouser; Supplier Part Number 1: 595-SN74ALS157ADR; Supplier 2: Digi-Key; Supplier Part Number 2: 296-14718-2-ND; Supplier 3: Digi-Key; Supplier Part Number 3: 296-14718-1-ND; Supplier 4: Digi-Key; Supplier Part Number 4: 296-14718-6-ND; Input Type: TTL; Operating Temperature Range(C): 0 to 70; Type: Standard; Code_JEDEC: MS-012 variation AC; ComponentLink1Description: Manufacturer URL; ComponentLink1URL: http://www.ti.com/; ComponentLink2Description: Datasheet; ComponentLink2URL: http://www.ti.com/lit/ds/symlink/sn74als157a.pdf; ComponentLink3Description: Package Specification; ComponentLink3URL: http://www.ti.com/lit/ml/mpds178g/mpds178g.pdf
footprint D0016A_N (SOIC, 16-Leads, Body 10x4mm, Pitch 1.27mm, IPC Medium Density)
footprint D0016A_M (SOIC, 16-Leads, Body 10x4mm, Pitch 1.27mm, IPC Low Density)
footprint D0016A_L (SOIC, 16-Leads, Body 10x4mm, Pitch 1.27mm, IPC High Density)
pins: 1 ~{A}/B (in), 2 1A (in), 3 1B (in), 4 1Y (out), 5 2A (in), 6 2B (in), 7 2Y (out), 8 GND (power), 9 3Y (out), 10 3B (in), 11 3A (in), 12 4Y (out), 13 4B (in), 14 4A (in), 15 ~{G} (in), 16 VCC (power)

## SN74ALS157AN
designator U?
Quadruple 1-of-2 Data Selectors/Multiplexers, N0016A, TUBE; Generic Part Number: SN74ALS157A; Manufacturer: Texas Instruments; PartNumber: SN74ALS157AN; VCC(Min)(V): 4.5; VCC(Max)(V): 5.5; Output Type: TTL; Function: Encoder/Multiplexer; ICC @ Nom Voltage(Max)(mA): 11; Bits(#): 2; F @ Nom Voltage(Max)(Mhz): 75; Configuration: 2：1; Channels(#): 4; Rating: Catalog; Technology Family: ALS; Voltage(Nom)(V): 5; Schmitt Trigger: No; Output Drive (IOL/IOH)(Max)(mA): 8/-0.4; tpd @ Nom Voltage(Max)(ns): 14; DatasheetVersion: SDAS081C; PackageReference: N0016A; Supplier 1: Mouser; Supplier Part Number 1: 595-SN74ALS157AN; Supplier 2: Digi-Key; Supplier Part Number 2: 296-14719-5-ND; Input Type: TTL; Operating Temperature Range(C): 0 to 70; Type: Standard; Code_JEDEC: MS-001; ComponentLink1Description: Manufacturer URL; ComponentLink1URL: http://www.ti.com/; ComponentLink2Description: Datasheet; ComponentLink2URL: http://www.ti.com/lit/ds/symlink/sn74als157a.pdf; ComponentLink3Description: Package Specification; ComponentLink3URL: http://www.ti.com/lit/ml/mpdi002c/mpdi002c.pdf
footprint N0016A (DIP, 16-Leads, Body 19.7x6.6mm, Pitch 2.54mm)
pins: 1 ~{A}/B (in), 2 1A (in), 3 1B (in), 4 1Y (out), 5 2A (in), 6 2B (in), 7 2Y (out), 8 GND (power), 9 3Y (out), 10 3B (in), 11 3A (in), 12 4Y (out), 13 4B (in), 14 4A (in), 15 ~{G} (in), 16 VCC (power)

## SN74ALS157ANSR
designator U?
Quadruple 1-of-2 Data Selectors/Multiplexers, NS0016A, LARGE T&R; Generic Part Number: SN74ALS157A; Manufacturer: Texas Instruments; PartNumber: SN74ALS157ANSR; VCC(Min)(V): 4.5; VCC(Max)(V): 5.5; Output Type: TTL; Function: Encoder/Multiplexer; ICC @ Nom Voltage(Max)(mA): 11; Bits(#): 2; F @ Nom Voltage(Max)(Mhz): 75; Configuration: 2：1; Channels(#): 4; Rating: Catalog; Technology Family: ALS; Voltage(Nom)(V): 5; Schmitt Trigger: No; Output Drive (IOL/IOH)(Max)(mA): 8/-0.4; tpd @ Nom Voltage(Max)(ns): 14; DatasheetVersion: SDAS081C; PackageReference: NS0016A; Supplier 1: Mouser; Supplier Part Number 1: 595-SN74ALS157ANSR; Supplier 2: Digi-Key; Supplier Part Number 2: 296-28895-2-ND; Supplier 3: Digi-Key; Supplier Part Number 3: 296-28895-1-ND; Supplier 4: Digi-Key; Supplier Part Number 4: 296-28895-6-ND; Input Type: TTL; Operating Temperature Range(C): 0 to 70; Type: Standard; ComponentLink1Description: Manufacturer URL; ComponentLink1URL: http://www.ti.com/; ComponentLink2Description: Datasheet; ComponentLink2URL: http://www.ti.com/lit/ds/symlink/sn74als157a.pdf; ComponentLink3Description: Package Specification; ComponentLink3URL: http://www.ti.com/lit/ml/msop002a/msop002a.pdf
footprint NS0016A_N (SOIC,16-Leads,Body 10.5x5.6mm,Pitch 1.27mm,IPC Medium Density)
footprint NS0016A_M (SOIC,16-Leads,Body 10.5x5.6mm,Pitch 1.27mm,IPC Low Density)
footprint NS0016A_L (SOIC,16-Leads,Body 10.5x5.6mm,Pitch 1.27mm,IPC High Density)
pins: 1 ~{A}/B (in), 2 1A (in), 3 1B (in), 4 1Y (out), 5 2A (in), 6 2B (in), 7 2Y (out), 8 GND (power), 9 3Y (out), 10 3B (in), 11 3A (in), 12 4Y (out), 13 4B (in), 14 4A (in), 15 ~{G} (in), 16 VCC (power)

## SN74ALS158D
designator U?
Quadruple 1-of-2 Data Selectors/Multiplexers, D0016A, TUBE; Generic Part Number: SN74ALS158; Manufacturer: Texas Instruments; PartNumber: SN74ALS158D; VCC(Min)(V): 4.5; VCC(Max)(V): 5.5; Output Type: TTL; Function: Encoder/Multiplexer; ICC @ Nom Voltage(Max)(mA): 10; Bits(#): 2; F @ Nom Voltage(Max)(Mhz): 75; Configuration: 2：1; Channels(#): 4; Rating: Catalog; Technology Family: ALS; Voltage(Nom)(V): 5; Schmitt Trigger: No; Output Drive (IOL/IOH)(Max)(mA): 8/-0.4; tpd @ Nom Voltage(Max)(ns): 14; DatasheetVersion: SDAS081C; PackageReference: D0016A; Supplier 1: Mouser; Supplier Part Number 1: 595-SN74ALS158D; Supplier 2: Digi-Key; Supplier Part Number 2: SN74ALS158D-ND; Input Type: TTL; Operating Temperature Range(C): 0 to 70; Type: Standard; Code_JEDEC: MS-012 variation AC; ComponentLink1Description: Manufacturer URL; ComponentLink1URL: http://www.ti.com/; ComponentLink2Description: Datasheet; ComponentLink2URL: http://www.ti.com/lit/ds/symlink/sn74als158.pdf; ComponentLink3Description: Package Specification; ComponentLink3URL: http://www.ti.com/lit/ml/mpds178g/mpds178g.pdf
footprint D0016A_N (SOIC, 16-Leads, Body 10x4mm, Pitch 1.27mm, IPC Medium Density)
footprint D0016A_M (SOIC, 16-Leads, Body 10x4mm, Pitch 1.27mm, IPC Low Density)
footprint D0016A_L (SOIC, 16-Leads, Body 10x4mm, Pitch 1.27mm, IPC High Density)
pins: 1 ~{A}/B (in), 2 1A (in), 3 1B (in), 4 1Y (out), 5 2A (in), 6 2B (in), 7 2Y (out), 8 GND (power), 9 3Y (out), 10 3B (in), 11 3A (in), 12 4Y (out), 13 4B (in), 14 4A (in), 15 ~{G} (in), 16 VCC (power)

## SN74ALS158N
designator U?
Quadruple 1-of-2 Data Selectors/Multiplexers, N0016A, TUBE; Generic Part Number: SN74ALS158; Manufacturer: Texas Instruments; PartNumber: SN74ALS158N; VCC(Min)(V): 4.5; VCC(Max)(V): 5.5; Output Type: TTL; Function: Encoder/Multiplexer; ICC @ Nom Voltage(Max)(mA): 10; Bits(#): 2; F @ Nom Voltage(Max)(Mhz): 75; Configuration: 2：1; Channels(#): 4; Rating: Catalog; Technology Family: ALS; Voltage(Nom)(V): 5; Schmitt Trigger: No; Output Drive (IOL/IOH)(Max)(mA): 8/-0.4; tpd @ Nom Voltage(Max)(ns): 14; DatasheetVersion: SDAS081C; PackageReference: N0016A; Supplier 1: Mouser; Supplier Part Number 1: 595-SN74ALS158N; Supplier 2: Digi-Key; Supplier Part Number 2: 296-5023-5-ND; Input Type: TTL; Operating Temperature Range(C): 0 to 70; Type: Standard; Code_JEDEC: MS-001; ComponentLink1Description: Manufacturer URL; ComponentLink1URL: http://www.ti.com/; ComponentLink2Description: Datasheet; ComponentLink2URL: http://www.ti.com/lit/ds/symlink/sn74als158.pdf; ComponentLink3Description: Package Specification; ComponentLink3URL: http://www.ti.com/lit/ml/mpdi002c/mpdi002c.pdf
footprint N0016A (DIP, 16-Leads, Body 19.7x6.6mm, Pitch 2.54mm)
pins: 1 ~{A}/B (in), 2 1A (in), 3 1B (in), 4 1Y (out), 5 2A (in), 6 2B (in), 7 2Y (out), 8 GND (power), 9 3Y (out), 10 3B (in), 11 3A (in), 12 4Y (out), 13 4B (in), 14 4A (in), 15 ~{G} (in), 16 VCC (power)

## SN74ALS158NSR
designator U?
Quadruple 1-of-2 Data Selectors/Multiplexers, NS0016A, LARGE T&R; Generic Part Number: SN74ALS158; Manufacturer: Texas Instruments; PartNumber: SN74ALS158NSR; VCC(Min)(V): 4.5; VCC(Max)(V): 5.5; Output Type: TTL; Function: Encoder/Multiplexer; ICC @ Nom Voltage(Max)(mA): 10; Bits(#): 2; F @ Nom Voltage(Max)(Mhz): 75; Configuration: 2：1; Channels(#): 4; Rating: Catalog; Technology Family: ALS; Voltage(Nom)(V): 5; Schmitt Trigger: No; Output Drive (IOL/IOH)(Max)(mA): 8/-0.4; tpd @ Nom Voltage(Max)(ns): 14; DatasheetVersion: SDAS081C; PackageReference: NS0016A; Supplier 1: Mouser; Supplier Part Number 1: 595-SN74ALS158NSR; Supplier 2: Digi-Key; Supplier Part Number 2: 296-13147-2-ND; Supplier 3: Digi-Key; Supplier Part Number 3: 296-13147-1-ND; Supplier 4: Digi-Key; Supplier Part Number 4: 296-13147-6-ND; Input Type: TTL; Operating Temperature Range(C): 0 to 70; Type: Standard; ComponentLink1Description: Manufacturer URL; ComponentLink1URL: http://www.ti.com/; ComponentLink2Description: Datasheet; ComponentLink2URL: http://www.ti.com/lit/ds/symlink/sn74als158.pdf; ComponentLink3Description: Package Specification; ComponentLink3URL: http://www.ti.com/lit/ml/msop002a/msop002a.pdf
footprint NS0016A_N (SOIC,16-Leads,Body 10.5x5.6mm,Pitch 1.27mm,IPC Medium Density)
footprint NS0016A_M (SOIC,16-Leads,Body 10.5x5.6mm,Pitch 1.27mm,IPC Low Density)
footprint NS0016A_L (SOIC,16-Leads,Body 10.5x5.6mm,Pitch 1.27mm,IPC High Density)
pins: 1 ~{A}/B (in), 2 1A (in), 3 1B (in), 4 1Y (out), 5 2A (in), 6 2B (in), 7 2Y (out), 8 GND (power), 9 3Y (out), 10 3B (in), 11 3A (in), 12 4Y (out), 13 4B (in), 14 4A (in), 15 ~{G} (in), 16 VCC (power)

## SN74ALS161BD
designator U?
Synchronous 4-Bit Binary Counters, D0016A, TUBE; Generic Part Number: SN74ALS161B; Manufacturer: Texas Instruments; PartNumber: SN74ALS161BD; VCC(Min)(V): 4.5; VCC(Max)(V): 5.5; Output Type: CMOS; Inputs: 1; ICC @ Nom Voltage(Max)(mA): 21; Input Type: TTL; Bits(#): 4; F @ Nom Voltage(Max)(Mhz): 75; Rating: Catalog; Technology Family: ALS; Voltage(Nom)(V): 5; Schmitt Trigger: No; Output Drive (IOL/IOH)(Max)(mA): 8/-0.4; tpd @ Nom Voltage(Max)(ns): 20; DatasheetVersion: SDAS276A; PackageReference: D0016A; Supplier 1: Mouser; Supplier Part Number 1: 595-SN74ALS161BD; Supplier 2: Digi-Key; Supplier Part Number 2: 296-5024-5-ND; Function: Counter; Operating Temperature Range(C): 0 to 70; Type: Binary; Code_JEDEC: MS-012 variation AC; ComponentLink1Description: Manufacturer URL; ComponentLink1URL: http://www.ti.com/; ComponentLink2Description: Datasheet; ComponentLink2URL: http://www.ti.com/lit/ds/symlink/sn74als161b.pdf; ComponentLink3Description: Package Specification; ComponentLink3URL: http://www.ti.com/lit/ml/mpds178g/mpds178g.pdf
footprint D0016A_N (SOIC, 16-Leads, Body 10x4mm, Pitch 1.27mm, IPC Medium Density)
footprint D0016A_M (SOIC, 16-Leads, Body 10x4mm, Pitch 1.27mm, IPC Low Density)
footprint D0016A_L (SOIC, 16-Leads, Body 10x4mm, Pitch 1.27mm, IPC High Density)
pins: 1 ~{CLR} (in), 2 CLK (in), 3 A (in), 4 B (in), 5 C (in), 6 D (in), 7 ENP (in), 8 GND (power), 9 ~{LOAD} (in), 10 ENT (in), 11 QD (out), 12 QC (out), 13 QB (out), 14 QA (out), 15 RCO (out), 16 VCC (power)

## SN74ALS161BDR
designator U?
Synchronous 4-Bit Binary Counters, D0016A, LARGE T&R; Generic Part Number: SN74ALS161B; Manufacturer: Texas Instruments; PartNumber: SN74ALS161BDR; VCC(Min)(V): 4.5; VCC(Max)(V): 5.5; Output Type: CMOS; Inputs: 1; ICC @ Nom Voltage(Max)(mA): 21; Input Type: TTL; Bits(#): 4; F @ Nom Voltage(Max)(Mhz): 75; Rating: Catalog; Technology Family: ALS; Voltage(Nom)(V): 5; Schmitt Trigger: No; Output Drive (IOL/IOH)(Max)(mA): 8/-0.4; tpd @ Nom Voltage(Max)(ns): 20; DatasheetVersion: SDAS276A; PackageReference: D0016A; Supplier 1: Mouser; Supplier Part Number 1: 595-SN74ALS161BDR; Supplier 2: Digi-Key; Supplier Part Number 2: SN74ALS161BDR-ND; Function: Counter; Operating Temperature Range(C): 0 to 70; Type: Binary; Code_JEDEC: MS-012 variation AC; ComponentLink1Description: Manufacturer URL; ComponentLink1URL: http://www.ti.com/; ComponentLink2Description: Datasheet; ComponentLink2URL: http://www.ti.com/lit/ds/symlink/sn74als161b.pdf; ComponentLink3Description: Package Specification; ComponentLink3URL: http://www.ti.com/lit/ml/mpds178g/mpds178g.pdf
footprint D0016A_N (SOIC, 16-Leads, Body 10x4mm, Pitch 1.27mm, IPC Medium Density)
footprint D0016A_M (SOIC, 16-Leads, Body 10x4mm, Pitch 1.27mm, IPC Low Density)
footprint D0016A_L (SOIC, 16-Leads, Body 10x4mm, Pitch 1.27mm, IPC High Density)
pins: 1 ~{CLR} (in), 2 CLK (in), 3 A (in), 4 B (in), 5 C (in), 6 D (in), 7 ENP (in), 8 GND (power), 9 ~{LOAD} (in), 10 ENT (in), 11 QD (out), 12 QC (out), 13 QB (out), 14 QA (out), 15 RCO (out), 16 VCC (power)

## SN74ALS161BN
designator U?
Synchronous 4-Bit Binary Counters, N0016A, TUBE; Generic Part Number: SN74ALS161B; Manufacturer: Texas Instruments; PartNumber: SN74ALS161BN; VCC(Min)(V): 4.5; VCC(Max)(V): 5.5; Output Type: CMOS; Inputs: 1; ICC @ Nom Voltage(Max)(mA): 21; Input Type: TTL; Bits(#): 4; F @ Nom Voltage(Max)(Mhz): 75; Rating: Catalog; Technology Family: ALS; Voltage(Nom)(V): 5; Schmitt Trigger: No; Output Drive (IOL/IOH)(Max)(mA): 8/-0.4; tpd @ Nom Voltage(Max)(ns): 20; DatasheetVersion: SDAS276A; PackageReference: N0016A; Supplier 1: Mouser; Supplier Part Number 1: 595-SN74ALS161BN; Supplier 2: Digi-Key; Supplier Part Number 2: 296-1487-5-ND; Function: Counter; Operating Temperature Range(C): 0 to 70; Type: Binary; Code_JEDEC: MS-001; ComponentLink1Description: Manufacturer URL; ComponentLink1URL: http://www.ti.com/; ComponentLink2Description: Datasheet; ComponentLink2URL: http://www.ti.com/lit/ds/symlink/sn74als161b.pdf; ComponentLink3Description: Package Specification; ComponentLink3URL: http://www.ti.com/lit/ml/mpdi002c/mpdi002c.pdf
footprint N0016A (DIP, 16-Leads, Body 19.7x6.6mm, Pitch 2.54mm)
pins: 1 ~{CLR} (in), 2 CLK (in), 3 A (in), 4 B (in), 5 C (in), 6 D (in), 7 ENP (in), 8 GND (power), 9 ~{LOAD} (in), 10 ENT (in), 11 QD (out), 12 QC (out), 13 QB (out), 14 QA (out), 15 RCO (out), 16 VCC (power)

## SN74ALS161BNSR
designator U?
Synchronous 4-Bit Binary Counters, NS0016A, LARGE T&R; Generic Part Number: SN74ALS161B; Manufacturer: Texas Instruments; PartNumber: SN74ALS161BNSR; VCC(Min)(V): 4.5; VCC(Max)(V): 5.5; Output Type: CMOS; Inputs: 1; ICC @ Nom Voltage(Max)(mA): 21; Input Type: TTL; Bits(#): 4; F @ Nom Voltage(Max)(Mhz): 75; Rating: Catalog; Technology Family: ALS; Voltage(Nom)(V): 5; Schmitt Trigger: No; Output Drive (IOL/IOH)(Max)(mA): 8/-0.4; tpd @ Nom Voltage(Max)(ns): 20; DatasheetVersion: SDAS276A; PackageReference: NS0016A; Supplier 1: Mouser; Supplier Part Number 1: 595-SN74ALS161BNSR; Supplier 2: Digi-Key; Supplier Part Number 2: 296-29729-2-ND; Supplier 3: Digi-Key; Supplier Part Number 3: 296-29729-1-ND; Supplier 4: Digi-Key; Supplier Part Number 4: 296-29729-6-ND; Function: Counter; Operating Temperature Range(C): 0 to 70; Type: Binary; ComponentLink1Description: Manufacturer URL; ComponentLink1URL: http://www.ti.com/; ComponentLink2Description: Datasheet; ComponentLink2URL: http://www.ti.com/lit/ds/symlink/sn74als161b.pdf; ComponentLink3Description: Package Specification; ComponentLink3URL: http://www.ti.com/lit/ml/msop002a/msop002a.pdf
footprint NS0016A_N (SOIC,16-Leads,Body 10.5x5.6mm,Pitch 1.27mm,IPC Medium Density)
footprint NS0016A_M (SOIC,16-Leads,Body 10.5x5.6mm,Pitch 1.27mm,IPC Low Density)
footprint NS0016A_L (SOIC,16-Leads,Body 10.5x5.6mm,Pitch 1.27mm,IPC High Density)
pins: 1 ~{CLR} (in), 2 CLK (in), 3 A (in), 4 B (in), 5 C (in), 6 D (in), 7 ENP (in), 8 GND (power), 9 ~{LOAD} (in), 10 ENT (in), 11 QD (out), 12 QC (out), 13 QB (out), 14 QA (out), 15 RCO (out), 16 VCC (power)

## SN74ALS163BD
designator U?
Synchronous 4-Bit Binary Counters, D0016A, TUBE; Generic Part Number: SN74ALS163B; Manufacturer: Texas Instruments; PartNumber: SN74ALS163BD; VCC(Min)(V): 4.5; VCC(Max)(V): 5.5; Output Type: CMOS; Inputs: 1; ICC @ Nom Voltage(Max)(mA): 21; Input Type: TTL; Bits(#): 4; F @ Nom Voltage(Max)(Mhz): 75; Rating: Catalog; Technology Family: ALS; Voltage(Nom)(V): 5; Schmitt Trigger: No; Output Drive (IOL/IOH)(Max)(mA): 8/-0.4; tpd @ Nom Voltage(Max)(ns): 20; DatasheetVersion: SDAS276A; PackageReference: D0016A; Supplier 1: Mouser; Supplier Part Number 1: 595-SN74ALS163BD; Supplier 2: Digi-Key; Supplier Part Number 2: 296-23237-5-ND; Function: Counter; Operating Temperature Range(C): 0 to 70; Type: Binary; Code_JEDEC: MS-012 variation AC; ComponentLink1Description: Manufacturer URL; ComponentLink1URL: http://www.ti.com/; ComponentLink2Description: Datasheet; ComponentLink2URL: http://www.ti.com/lit/ds/symlink/sn74als163b.pdf; ComponentLink3Description: Package Specification; ComponentLink3URL: http://www.ti.com/lit/ml/mpds178g/mpds178g.pdf
footprint D0016A_N (SOIC, 16-Leads, Body 10x4mm, Pitch 1.27mm, IPC Medium Density)
footprint D0016A_M (SOIC, 16-Leads, Body 10x4mm, Pitch 1.27mm, IPC Low Density)
footprint D0016A_L (SOIC, 16-Leads, Body 10x4mm, Pitch 1.27mm, IPC High Density)
pins: 1 ~{CLR} (in), 2 CLK (in), 3 A (in), 4 B (in), 5 C (in), 6 D (in), 7 ENP (in), 8 GND (power), 9 ~{LOAD} (in), 10 ENT (in), 11 QD (out), 12 QC (out), 13 QB (out), 14 QA (out), 15 RCO (out), 16 VCC (power)

## SN74ALS163BDR
designator U?
Synchronous 4-Bit Binary Counters, D0016A, LARGE T&R; Generic Part Number: SN74ALS163B; Manufacturer: Texas Instruments; PartNumber: SN74ALS163BDR; VCC(Min)(V): 4.5; VCC(Max)(V): 5.5; Output Type: CMOS; Inputs: 1; ICC @ Nom Voltage(Max)(mA): 21; Input Type: TTL; Bits(#): 4; F @ Nom Voltage(Max)(Mhz): 75; Rating: Catalog; Technology Family: ALS; Voltage(Nom)(V): 5; Schmitt Trigger: No; Output Drive (IOL/IOH)(Max)(mA): 8/-0.4; tpd @ Nom Voltage(Max)(ns): 20; DatasheetVersion: SDAS276A; PackageReference: D0016A; Supplier 1: Mouser; Supplier Part Number 1: 595-SN74ALS163BDR; Supplier 2: Digi-Key; Supplier Part Number 2: 296-29439-2-ND; Supplier 3: Digi-Key; Supplier Part Number 3: 296-29439-1-ND; Supplier 4: Digi-Key; Supplier Part Number 4: 296-29439-6-ND; Function: Counter; Operating Temperature Range(C): 0 to 70; Type: Binary; Code_JEDEC: MS-012 variation AC; ComponentLink1Description: Manufacturer URL; ComponentLink1URL: http://www.ti.com/; ComponentLink2Description: Datasheet; ComponentLink2URL: http://www.ti.com/lit/ds/symlink/sn74als163b.pdf; ComponentLink3Description: Package Specification; ComponentLink3URL: http://www.ti.com/lit/ml/mpds178g/mpds178g.pdf
footprint D0016A_N (SOIC, 16-Leads, Body 10x4mm, Pitch 1.27mm, IPC Medium Density)
footprint D0016A_M (SOIC, 16-Leads, Body 10x4mm, Pitch 1.27mm, IPC Low Density)
footprint D0016A_L (SOIC, 16-Leads, Body 10x4mm, Pitch 1.27mm, IPC High Density)
pins: 1 ~{CLR} (in), 2 CLK (in), 3 A (in), 4 B (in), 5 C (in), 6 D (in), 7 ENP (in), 8 GND (power), 9 ~{LOAD} (in), 10 ENT (in), 11 QD (out), 12 QC (out), 13 QB (out), 14 QA (out), 15 RCO (out), 16 VCC (power)

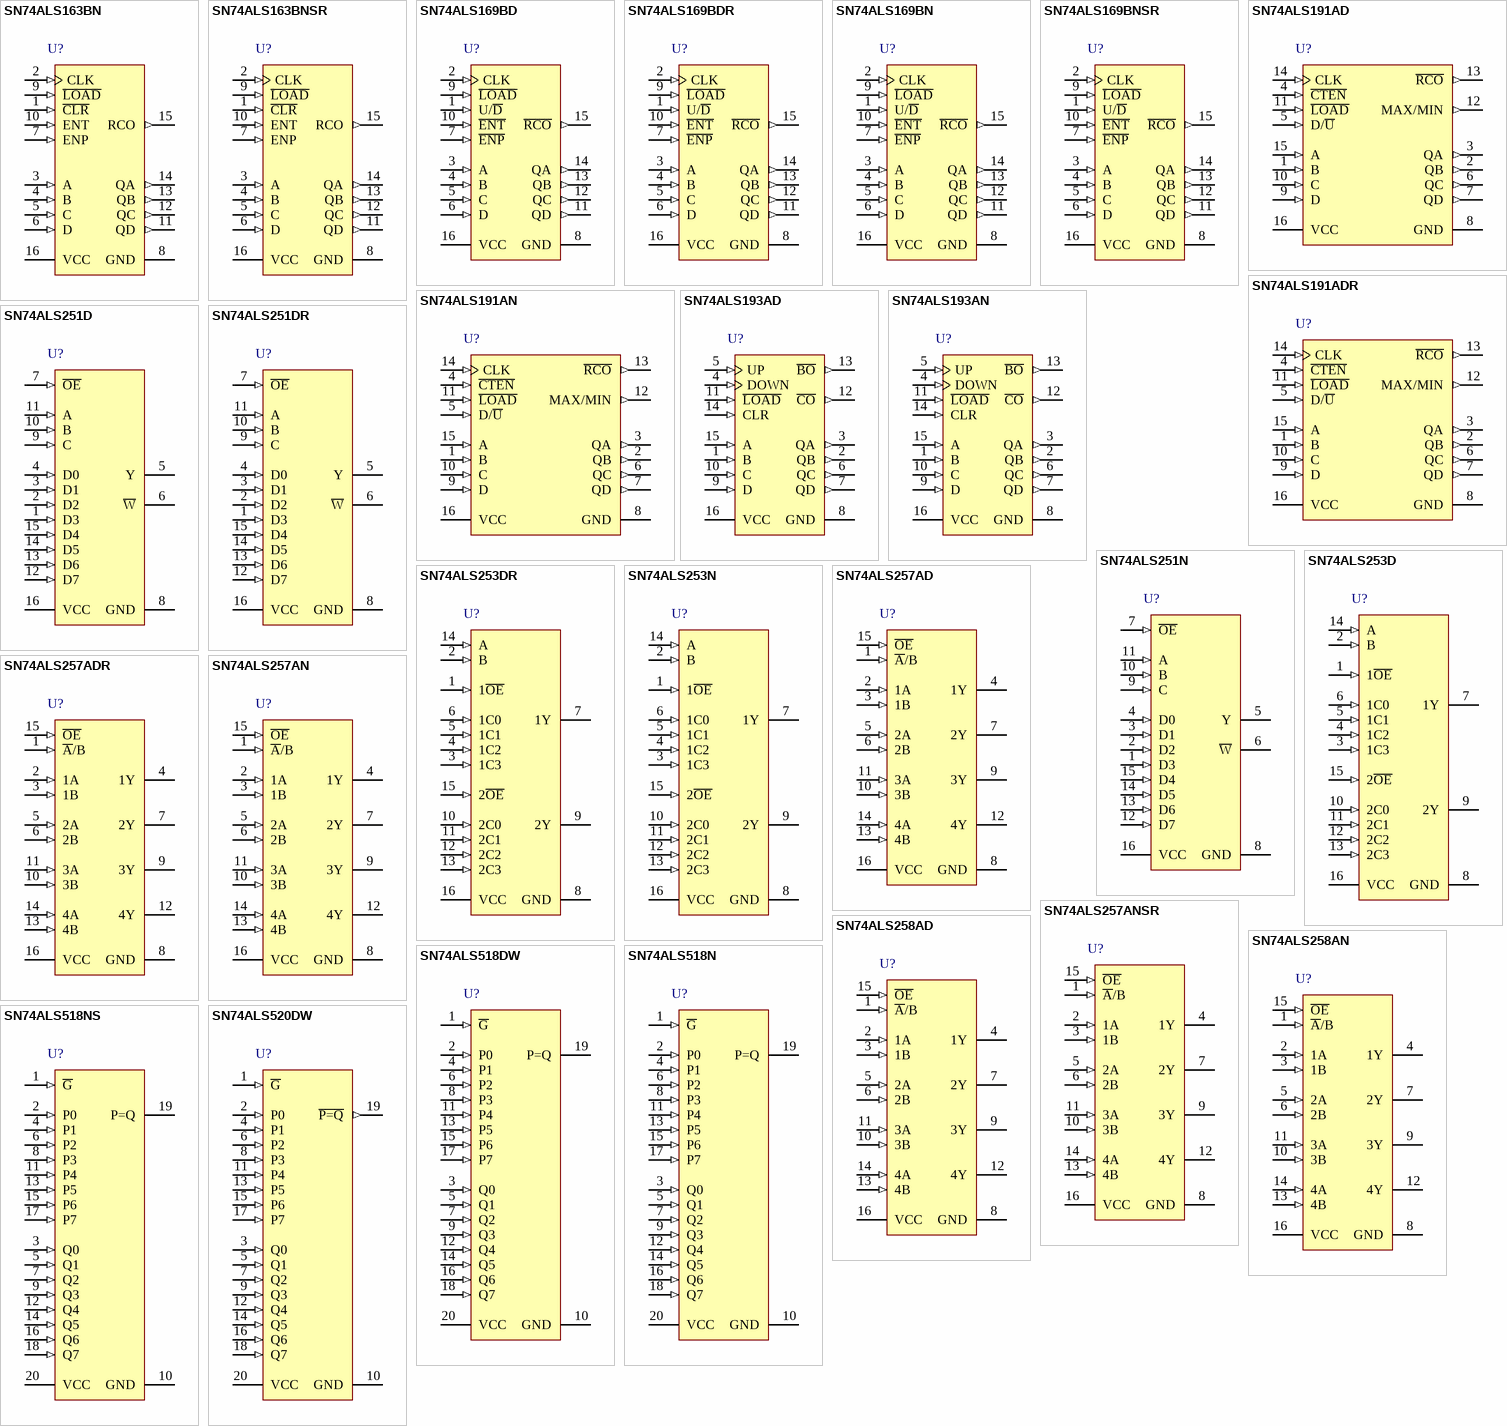
[diagram p54: symbols SN74ALS163BN to SN74ALS520DW]

## SN74ALS163BN
designator U?
Synchronous 4-Bit Binary Counters, N0016A, TUBE; Generic Part Number: SN74ALS163B; Manufacturer: Texas Instruments; PartNumber: SN74ALS163BN; VCC(Min)(V): 4.5; VCC(Max)(V): 5.5; Output Type: CMOS; Inputs: 1; ICC @ Nom Voltage(Max)(mA): 21; Input Type: TTL; Bits(#): 4; F @ Nom Voltage(Max)(Mhz): 75; Rating: Catalog; Technology Family: ALS; Voltage(Nom)(V): 5; Schmitt Trigger: No; Output Drive (IOL/IOH)(Max)(mA): 8/-0.4; tpd @ Nom Voltage(Max)(ns): 20; DatasheetVersion: SDAS276A; PackageReference: N0016A; Supplier 1: Mouser; Supplier Part Number 1: 595-SN74ALS163BN; Supplier 2: Digi-Key; Supplier Part Number 2: 296-1488-5-ND; Function: Counter; Operating Temperature Range(C): 0 to 70; Type: Binary; Code_JEDEC: MS-001; ComponentLink1Description: Manufacturer URL; ComponentLink1URL: http://www.ti.com/; ComponentLink2Description: Datasheet; ComponentLink2URL: http://www.ti.com/lit/ds/symlink/sn74als163b.pdf; ComponentLink3Description: Package Specification; ComponentLink3URL: http://www.ti.com/lit/ml/mpdi002c/mpdi002c.pdf
footprint N0016A (DIP, 16-Leads, Body 19.7x6.6mm, Pitch 2.54mm)
pins: 1 ~{CLR} (in), 2 CLK (in), 3 A (in), 4 B (in), 5 C (in), 6 D (in), 7 ENP (in), 8 GND (power), 9 ~{LOAD} (in), 10 ENT (in), 11 QD (out), 12 QC (out), 13 QB (out), 14 QA (out), 15 RCO (out), 16 VCC (power)

## SN74ALS163BNSR
designator U?
Synchronous 4-Bit Binary Counters, NS0016A, LARGE T&R; Generic Part Number: SN74ALS163B; Manufacturer: Texas Instruments; PartNumber: SN74ALS163BNSR; VCC(Min)(V): 4.5; VCC(Max)(V): 5.5; Output Type: CMOS; Inputs: 1; ICC @ Nom Voltage(Max)(mA): 21; Input Type: TTL; Bits(#): 4; F @ Nom Voltage(Max)(Mhz): 75; Rating: Catalog; Technology Family: ALS; Voltage(Nom)(V): 5; Schmitt Trigger: No; Output Drive (IOL/IOH)(Max)(mA): 8/-0.4; tpd @ Nom Voltage(Max)(ns): 20; DatasheetVersion: SDAS276A; PackageReference: NS0016A; Supplier 1: Mouser; Supplier Part Number 1: 595-SN74ALS163BNSR; Supplier 2: Digi-Key; Supplier Part Number 2: SN74ALS163BNSR-ND; Function: Counter; Operating Temperature Range(C): 0 to 70; Type: Binary; ComponentLink1Description: Manufacturer URL; ComponentLink1URL: http://www.ti.com/; ComponentLink2Description: Datasheet; ComponentLink2URL: http://www.ti.com/lit/ds/symlink/sn74als163b.pdf; ComponentLink3Description: Package Specification; ComponentLink3URL: http://www.ti.com/lit/ml/msop002a/msop002a.pdf
footprint NS0016A_N (SOIC,16-Leads,Body 10.5x5.6mm,Pitch 1.27mm,IPC Medium Density)
footprint NS0016A_M (SOIC,16-Leads,Body 10.5x5.6mm,Pitch 1.27mm,IPC Low Density)
footprint NS0016A_L (SOIC,16-Leads,Body 10.5x5.6mm,Pitch 1.27mm,IPC High Density)
pins: 1 ~{CLR} (in), 2 CLK (in), 3 A (in), 4 B (in), 5 C (in), 6 D (in), 7 ENP (in), 8 GND (power), 9 ~{LOAD} (in), 10 ENT (in), 11 QD (out), 12 QC (out), 13 QB (out), 14 QA (out), 15 RCO (out), 16 VCC (power)

## SN74ALS169BD
designator U?
4-Bit Synchronous Up/Down Binary Counters, D0016A, TUBE; Generic Part Number: SN74ALS169B; Manufacturer: Texas Instruments; PartNumber: SN74ALS169BD; VCC(Min)(V): 4.5; VCC(Max)(V): 5.5; Output Type: CMOS; Inputs: 1; ICC @ Nom Voltage(Max)(mA): 25; Input Type: TTL; Bits(#): 4; F @ Nom Voltage(Max)(Mhz): 75; Rating: Catalog; Technology Family: ALS; Voltage(Nom)(V): 5; Schmitt Trigger: No; Output Drive (IOL/IOH)(Max)(mA): 8/-0.4; tpd @ Nom Voltage(Max)(ns): 20; DatasheetVersion: SDAS125B; PackageReference: D0016A; Supplier 1: Mouser; Supplier Part Number 1: 595-SN74ALS169BD; Supplier 2: Digi-Key; Supplier Part Number 2: 296-33717-5-ND; Function: Counter; Operating Temperature Range(C): 0 to 70; Type: Binary; Code_JEDEC: MS-012 variation AC; ComponentLink1Description: Manufacturer URL; ComponentLink1URL: http://www.ti.com/; ComponentLink2Description: Datasheet; ComponentLink2URL: http://www.ti.com/lit/ds/symlink/sn74als169b.pdf; ComponentLink3Description: Package Specification; ComponentLink3URL: http://www.ti.com/lit/ml/mpds178g/mpds178g.pdf
footprint D0016A_N (SOIC, 16-Leads, Body 10x4mm, Pitch 1.27mm, IPC Medium Density)
footprint D0016A_M (SOIC, 16-Leads, Body 10x4mm, Pitch 1.27mm, IPC Low Density)
footprint D0016A_L (SOIC, 16-Leads, Body 10x4mm, Pitch 1.27mm, IPC High Density)
pins: 1 U/~{D} (in), 2 CLK (in), 3 A (in), 4 B (in), 5 C (in), 6 D (in), 7 ~{ENP} (in), 8 GND (power), 9 ~{LOAD} (in), 10 ~{ENT} (in), 11 QD (out), 12 QC (out), 13 QB (out), 14 QA (out), 15 ~{RCO} (out), 16 VCC (power)